# Altium footprint library resistencias_smd.PCBLIB: 183 footprints (part 1 of 12)
Each footprint in its own frame and in the unit in brackets; x right, y up, seen from the top. Pads: shape width x height; smd on the part's side, far side on the other; paste and mask are expansions set on the pad; w line width, h text height; cw(c..) or ccw(c..) is an arc to the next point about the centre after c.
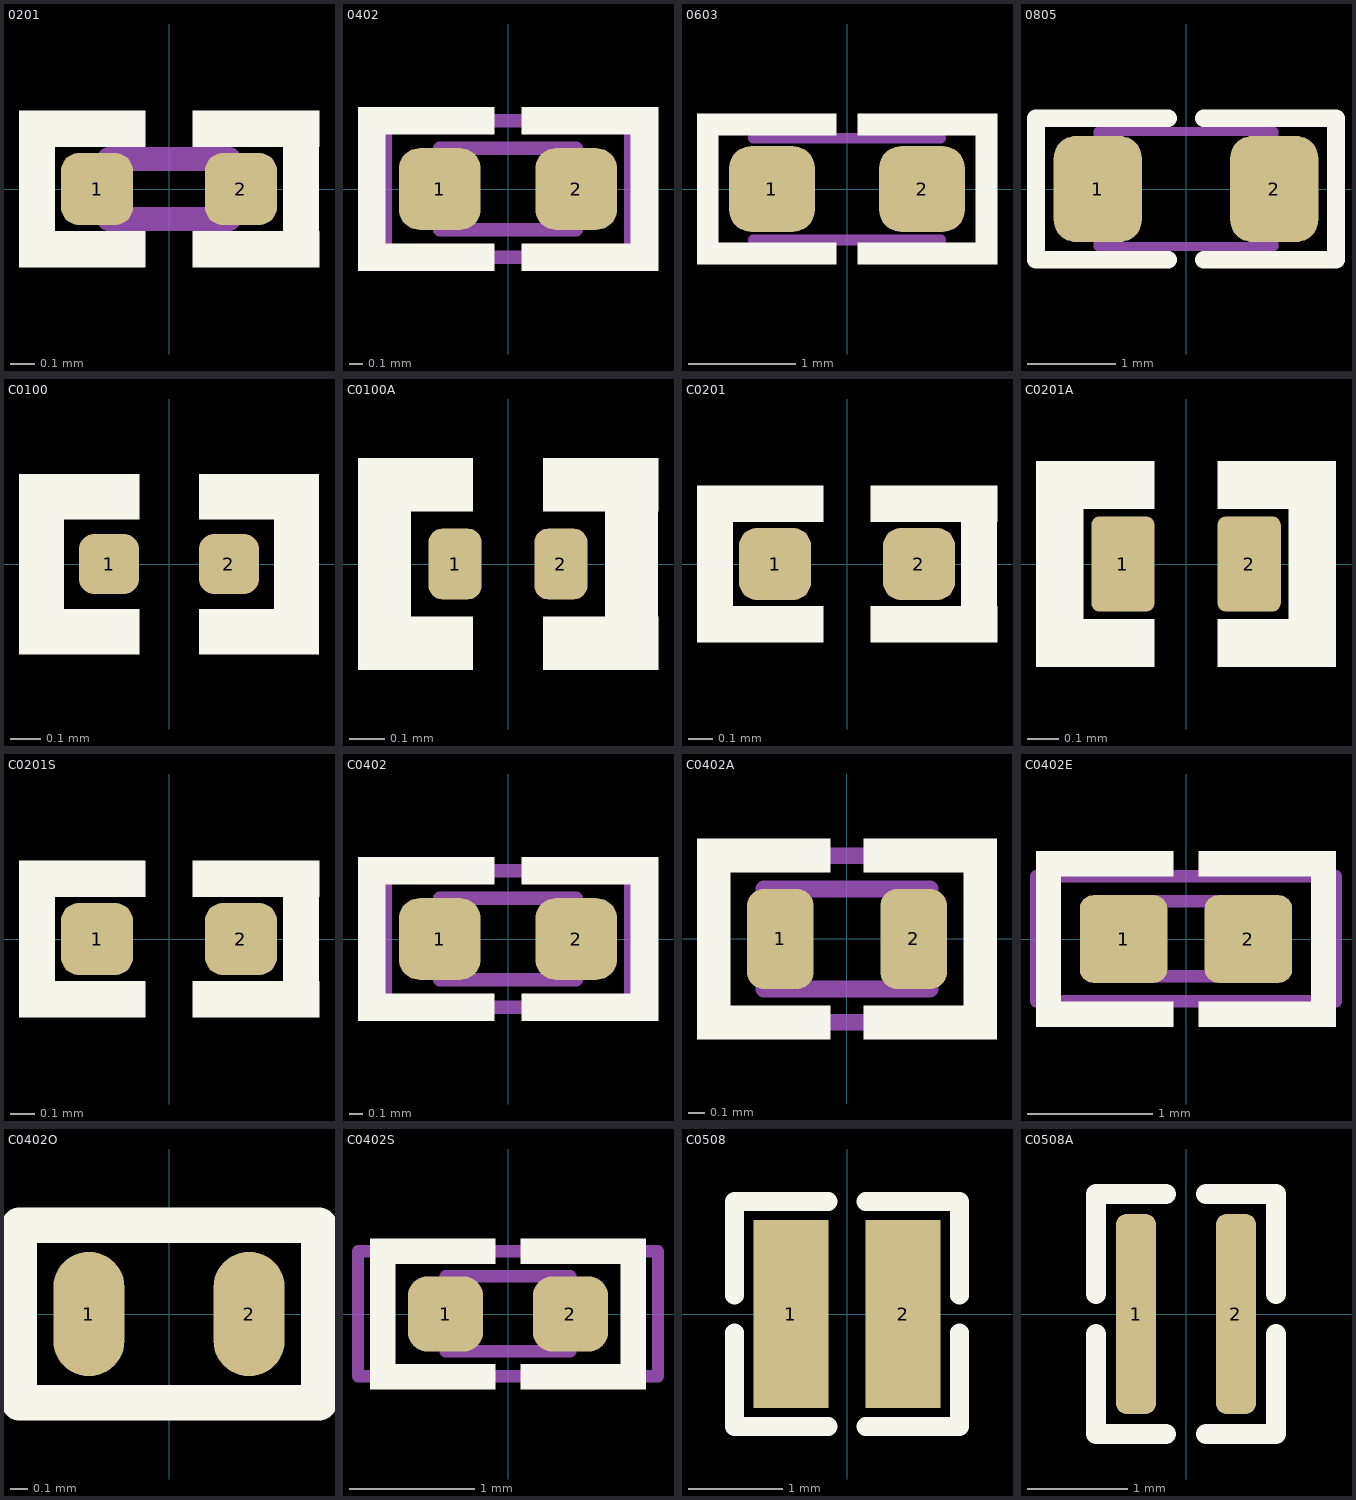
[diagram p0: the footprints below, top view; thin cyan lines are the x and y axes]

## 0201 [mm] "CHIP Capacitor, 0.5x0.25mm, 0201"
pads (2):
  rrect50% 0.3x0.3 smd mask+0.05: 1(-0.3,0) 2(0.3,0)
Top Overlay:
  region: 0.625,0.175 0.1,0.175 0.1,0.325 0.625,0.325
  region: -0.625,0.175 -0.1,0.175 -0.1,0.325 -0.625,0.325
  region: -0.625,-0.175 -0.1,-0.175 -0.1,-0.325 -0.625,-0.325
  region: 0.625,-0.175 0.1,-0.175 0.1,-0.325 0.625,-0.325
  lines w0.15: -0.55,-0.25 -0.55,0.25 ; 0.55,-0.25 0.55,0.25
Mechanical 13:
  lines w0.1: -0.25,-0.125 0.25,-0.125 0.25,0.125 -0.25,0.125 -0.25,-0.125
3D body: height 0.2, standoff 0, extent 0.15,-0.125 0.25,0.125
3D body: height 0.2, standoff 0, extent -0.25,-0.125 -0.15,0.125
3D body: height 0.2, standoff 0, extent -0.15,-0.125 0.15,0.125

## 0402 [mm] "0402, 1005, 100X50, 1.00x0.5mm ( 1.1x0.6mm)"
height 0.4
pads (2):
  rrect50% 0.6x0.6 smd mask+0.075: 1(-0.5,0) 2(0.5,0)
Top Overlay:
  region: 0.1,-0.4 0.1,-0.6 1.1,-0.6 1.1,-0.4
  region: 0.1,0.4 0.1,0.6 1.1,0.6 1.1,0.4
  region: 1.1,0.6 0.9,0.6 0.9,-0.6 1.1,-0.6
  region: -1.1,0.6 -0.9,0.6 -0.9,-0.6 -1.1,-0.6
  region: -0.1,0.4 -0.1,0.6 -1.1,0.6 -1.1,0.4
  region: -0.1,-0.4 -0.1,-0.6 -1.1,-0.6 -1.1,-0.4
Mechanical 13:
  lines w0.1: -0.5,-0.3 -0.5,0.3 0.5,0.3 0.5,-0.3 -0.5,-0.3
Mechanical 15:
  lines w0.1: -0.9,-0.5 0.9,-0.5 0.9,0.5 -0.9,0.5 -0.9,-0.5
3D body: height 0.4, standoff 0, extent -0.5,-0.3 0.5,0.3

## 0603 [mm] "1608, 160X80, 1.6x0.8mm (1.75x0.95mm)"
height 0.6
pads (2):
  rrect50% 0.8x0.8 smd mask+0.075: 1(-0.7,0) 2(0.7,0)
Top Overlay:
  region: -0.1,-0.5 -0.1,-0.7 -1.4,-0.7 -1.4,-0.5
  region: -0.1,0.5 -0.1,0.7 -1.4,0.7 -1.4,0.5
  region: -1.4,0.7 -1.2,0.7 -1.2,-0.7 -1.4,-0.7
  region: 1.4,0.7 1.2,0.7 1.2,-0.7 1.4,-0.7
  region: 0.1,0.5 0.1,0.7 1.4,0.7 1.4,0.5
  region: 0.1,-0.5 0.1,-0.7 1.4,-0.7 1.4,-0.5
Mechanical 13:
  lines w0.1: -0.875,-0.475 0.875,-0.475 ; -0.875,0.475 0.875,0.475
3D body: height 0.6, standoff 0, extent -0.875,-0.475 0.875,0.475

## 0805 [mm] ",0805, 2012, 200X130"
pads (2):
  rrect50% 1x1.2 smd mask+0.075: 1(-1,0) 2(1,0)
Top Overlay:
  lines w0.2: -0.2,-0.8 -1.7,-0.8 -1.7,0.8 -0.2,0.8 ; 0.2,-0.8 1.7,-0.8 1.7,0.8 0.2,0.8
Mechanical 13:
  lines w0.1: -1,-0.65 -1,0.65 1,0.65 1,-0.65 -1,-0.65
3D body: height 0.8, standoff 0, extent -1,-0.65 1,0.65

## C0100 [mm] "CHIP Capacitor, 0.4x0.2mm, 0100, 01005"
height 0.13
pads (2):
  rrect50% 0.2x0.2 smd mask+0.05: 1(-0.2,0) 2(0.2,0)
Top Overlay:
  region: 0.5,0.15 0.1,0.15 0.1,0.3 0.5,0.3
  region: 0.5,-0.15 0.1,-0.15 0.1,-0.3 0.5,-0.3
  region: -0.5,-0.15 -0.1,-0.15 -0.1,-0.3 -0.5,-0.3
  region: -0.5,0.15 -0.1,0.15 -0.1,0.3 -0.5,0.3
  lines w0.15: -0.425,-0.225 -0.425,0.225 ; 0.425,-0.225 0.425,0.225
3D body: height 0.2, standoff 0, extent -0.1,-0.1 0.1,0.1
3D body: height 0.2, standoff 0, extent 0.1,-0.1 0.2,0.1
3D body: height 0.2, standoff 0, extent -0.2,-0.1 -0.1,0.1

## C0100A [mm] "CHIP Capacitor, 0.4x0.2mm, for PCBA, 01005"
height 0.13
pads (2):
  rrect50% 0.15x0.2 smd mask+0.05: 1(-0.15,0) 2(0.15,0)
Top Overlay:
  region: 0.425,-0.15 0.1,-0.15 0.1,-0.3 0.425,-0.3
  region: 0.425,0.15 0.1,0.15 0.1,0.3 0.425,0.3
  region: -0.425,0.15 -0.1,0.15 -0.1,0.3 -0.425,0.3
  region: -0.425,-0.15 -0.1,-0.15 -0.1,-0.3 -0.425,-0.3
  lines w0.15: -0.35,-0.225 -0.35,0.225 ; 0.35,-0.225 0.35,0.225
3D body: height 0.2, standoff 0, extent -0.2,-0.1 -0.1,0.1
3D body: height 0.2, standoff 0, extent 0.1,-0.1 0.2,0.1
3D body: height 0.2, standoff 0, extent -0.1,-0.1 0.1,0.1

## C0201 [mm] "CHIP Capacitor, 0.5x0.25mm, 0201"
pads (2):
  rrect50% 0.3x0.3 smd mask+0.05: 1(-0.3,0) 2(0.3,0)
Top Overlay:
  region: -0.625,-0.175 -0.1,-0.175 -0.1,-0.325 -0.625,-0.325
  region: 0.625,-0.175 0.1,-0.175 0.1,-0.325 0.625,-0.325
  region: 0.625,0.175 0.1,0.175 0.1,0.325 0.625,0.325
  region: -0.625,0.175 -0.1,0.175 -0.1,0.325 -0.625,0.325
  lines w0.15: -0.55,-0.25 -0.55,0.25 ; 0.55,-0.25 0.55,0.25
3D body: height 0.2, standoff 0, extent 0.15,-0.15 0.3,0.15
3D body: height 0.2, standoff 0, extent -0.15,-0.15 0.15,0.15
3D body: height 0.2, standoff 0, extent -0.3,-0.15 -0.15,0.15

## C0201A [mm] "CHIP Capacitor, 0.5x0.25mm, for PCBA"
pads (2):
  rrect25% 0.2x0.3 smd mask+0.05: 1(-0.2,0) 2(0.2,0)
Top Overlay:
  region: 0.475,0.175 0.1,0.175 0.1,0.325 0.475,0.325
  region: 0.475,-0.175 0.1,-0.175 0.1,-0.325 0.475,-0.325
  region: -0.475,-0.175 -0.1,-0.175 -0.1,-0.325 -0.475,-0.325
  region: -0.475,0.175 -0.1,0.175 -0.1,0.325 -0.475,0.325
  lines w0.15: -0.4,-0.25 -0.4,0.25 ; 0.4,-0.25 0.4,0.25
3D body: height 0.2, standoff 0, extent 0.15,-0.15 0.3,0.15
3D body: height 0.2, standoff 0, extent -0.15,-0.15 0.15,0.15
3D body: height 0.2, standoff 0, extent -0.3,-0.15 -0.15,0.15

## C0201S [mm] "CHIP Capacitor, 0.5x0.25mm, 0201, soldered"
pads (2):
  rrect50% 0.3x0.3 smd mask+0.05: 1(-0.3,0) 2(0.3,0)
Top Overlay:
  region: -0.625,0.175 -0.1,0.175 -0.1,0.325 -0.625,0.325
  region: 0.625,0.175 0.1,0.175 0.1,0.325 0.625,0.325
  region: 0.625,-0.175 0.1,-0.175 0.1,-0.325 0.625,-0.325
  region: -0.625,-0.175 -0.1,-0.175 -0.1,-0.325 -0.625,-0.325
  lines w0.15: -0.55,-0.25 -0.55,0.25 ; 0.55,-0.25 0.55,0.25
3D body "c0201_Cap.step": height 0.31, standoff 0, extent -0.44,-0.15 0.44,0.15

## C0402 [mm] "CHIP Capacitor, 1.0X0.5mm, 0402"
height 0.4
pads (2):
  rrect50% 0.6x0.6 smd mask+0.075: 1(-0.5,0) 2(0.5,0)
Top Overlay:
  region: -0.1,-0.4 -0.1,-0.6 -1.1,-0.6 -1.1,-0.4
  region: -0.1,0.4 -0.1,0.6 -1.1,0.6 -1.1,0.4
  region: -1.1,0.6 -0.9,0.6 -0.9,-0.6 -1.1,-0.6
  region: 1.1,0.6 0.9,0.6 0.9,-0.6 1.1,-0.6
  region: 0.1,0.4 0.1,0.6 1.1,0.6 1.1,0.4
  region: 0.1,-0.4 0.1,-0.6 1.1,-0.6 1.1,-0.4
Mechanical 13:
  lines w0.1: -0.5,-0.3 0.5,-0.3 0.5,0.3 -0.5,0.3 -0.5,-0.3
Mechanical 15:
  lines w0.1: -0.9,-0.5 -0.9,0.5 0.9,0.5 0.9,-0.5 -0.9,-0.5
3D body "User Library-0402C.step": height 0.36, standoff 0, extent -0.5,-0.265 0.5,0.265

## C0402A [mm] "CHIP Capacitor, 1.0X0.5mm, 0402, for PCBA"
height 0.4
pads (2):
  rrect50% 0.4x0.6 smd mask+0.075: 1(-0.4,0) 2(0.4,0)
Top Overlay:
  region: 0.1,-0.4 0.1,-0.6 0.9,-0.6 0.9,-0.4
  region: 0.1,0.4 0.1,0.6 0.9,0.6 0.9,0.4
  region: 0.9,0.6 0.7,0.6 0.7,-0.6 0.9,-0.6
  region: -0.9,0.6 -0.7,0.6 -0.7,-0.6 -0.9,-0.6
  region: -0.1,0.4 -0.1,0.6 -0.9,0.6 -0.9,0.4
  region: -0.1,-0.4 -0.1,-0.6 -0.9,-0.6 -0.9,-0.4
Mechanical 13:
  lines w0.1: -0.5,-0.3 -0.5,0.3 0.5,0.3 0.5,-0.3 -0.5,-0.3
Mechanical 15:
  lines w0.1: -0.8,-0.5 0.8,-0.5 0.8,0.5 -0.8,0.5 -0.8,-0.5
3D body "User Library-0402C.step": height 0.36, standoff 0, extent -0.5,-0.265 0.5,0.265

## C0402E [mm] "CHIP Capacitor, 1.0X0.5mm, 0402, EXPANDED PAD"
height 0.4
pads (2):
  rrect30% 0.7x0.7 smd mask+0.075: 1(-0.5,0) 2(0.5,0)
Top Overlay:
  region: 1.2,0.7 1,0.7 1,-0.7 1.2,-0.7
  region: 0.1,0.5 0.1,0.7 1.2,0.7 1.2,0.5
  region: 0.1,-0.5 0.1,-0.7 1.2,-0.7 1.2,-0.5
  region: -0.1,-0.5 -0.1,-0.7 -1.2,-0.7 -1.2,-0.5
  region: -0.1,0.5 -0.1,0.7 -1.2,0.7 -1.2,0.5
  region: -1.2,0.7 -1,0.7 -1,-0.7 -1.2,-0.7
Mechanical 13:
  lines w0.1: -0.5,-0.3 0.5,-0.3 0.5,0.3 -0.5,0.3 -0.5,-0.3
Mechanical 15:
  lines w0.1: -1.2,-0.5 -1.2,0.5 1.2,0.5 1.2,-0.5 -1.2,-0.5
3D body "User Library-0402C.step": height 0.36, standoff 0, extent -0.5,-0.265 0.5,0.265

## C0402O [mm] "CHIP Capacitor, 1.0X0.5mm, 0402 OPTIMIZED"
height 0.4
pads (2):
  oval 0.4x0.7 smd: 1(-0.45,0) 2(0.45,0)
Top Overlay:
  lines w0.2: -0.844,-0.5 -0.844,0.5 0.844,0.5 0.844,-0.5 -0.844,-0.5
3D body "User Library-0402C.step": height 0.36, standoff 0, extent -0.5,-0.265 0.5,0.265

## C0402S [mm] "CHIP Capacitor, 1.0X0.5mm, 0402, soldered"
height 0.4
pads (2):
  rrect50% 0.6x0.6 smd mask+0.075: 1(-0.5,0) 2(0.5,0)
Top Overlay:
  region: -0.1,-0.4 -0.1,-0.6 -1.1,-0.6 -1.1,-0.4
  region: -0.1,0.4 -0.1,0.6 -1.1,0.6 -1.1,0.4
  region: -1.1,0.6 -0.9,0.6 -0.9,-0.6 -1.1,-0.6
  region: 1.1,0.6 0.9,0.6 0.9,-0.6 1.1,-0.6
  region: 0.1,0.4 0.1,0.6 1.1,0.6 1.1,0.4
  region: 0.1,-0.4 0.1,-0.6 1.1,-0.6 1.1,-0.4
Mechanical 13:
  lines w0.1: -0.5,-0.3 -0.5,0.3 0.5,0.3 0.5,-0.3 -0.5,-0.3
Mechanical 15:
  lines w0.1: -1.2,-0.5 1.2,-0.5 1.2,0.5 -1.2,0.5 -1.2,-0.5
3D body "c0402_Cap.step": height 0.51, standoff 0, extent -0.73,-0.25 0.73,0.25

## C0508 [mm] "CHIP Capacitor, 1.3X2.0mm, 0508"
pads (2):
  rect 0.8x2 smd: 1(-0.6,0) 2(0.6,0)
Top Overlay:
  lines w0.2: -1.2,-0.2 -1.2,-1.2 -0.2,-1.2 ; -1.2,0.2 -1.2,1.2 -0.2,1.2 ; 0.2,-1.2 1.2,-1.2 1.2,-0.2 ; 0.2,1.2 1.2,1.2 1.2,0.2
3D body "User Library-Capacitor 0508.step": height 0.6, standoff 0, extent -0.635,-1 0.635,1

## C0508A [mm] "CHIP Capacitor, 1.3X2.0mm, 0508"
pads (2):
  rrect50% 0.4x2 smd: 1(-0.5,0) 2(0.5,0)
Top Overlay:
  lines w0.2: -0.9,-0.2 -0.9,-1.2 -0.2,-1.2 ; -0.9,0.2 -0.9,1.2 -0.2,1.2 ; 0.2,-1.2 0.9,-1.2 0.9,-0.2 ; 0.2,1.2 0.9,1.2 0.9,0.2
3D body "User Library-Capacitor 0508.step": height 0.6, standoff 0, extent -0.635,-1 0.635,1